# Altium schematic symbol library IND 33UH 8A 58 MOHM SMD.SchLib: 1 symbol
Pins are listed as number, name and electrical type; pins without a type are passive.

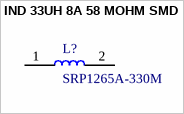
[diagram p0: symbol IND 33UH 8A 58 MOHM SMD]

## IND 33UH 8A 58 MOHM SMD
designator L?, comment SRP1265A-330M
33µH Shielded Wirewound Inductor 8A 58mOhm Max Nonstandard; MF: Bourns; SnapEDA_Link: https://www.snapeda.com/parts/SRP1265A-330M/Bourns/view-part/55645/?ref=snap; Availability: Unavailable; Value: *; Package: 1008 Bourns; MP: SRP1265A-330M; Price: None; Supplier 1: Digi-Key; Supplier 2: Newark; Supplier 3: Mouser
footprint IND_SRP1265A-330M
pins: 1, 2